# Altium integrated library 2.4 GHz Low Pass Filter.IntLib: 1 symbol
Pins are listed as number, name and electrical type; pins without a type are passive.

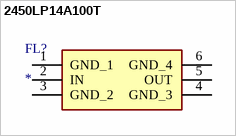
[diagram p0: symbol 2450LP14A100T]

## 2450LP14A100T
designator FL?
Filter; Manufacturer_Name: JOHANSON TECHNOLOGY; Manufacturer_Part_Number: 2450LP14A100T; Datasheet Link: https://componentsearchengine.com/Datasheets/1/2450LP14A100T.pdf; Height: 0.7mm; Mouser Part Number: 609-2450LP14A100T; Mouser Price/Stock: https://www.mouser.co.uk/ProductDetail/Johanson-Technology/2450LP14A100T?qs=yCnrNFeXz%252BgP94nTCDCKIA%3D%3D; Arrow Part Number: 2450LP14A100T; Arrow Price/Stock: https://www.arrow.com/en/products/2450lp14a100t/johanson-dielectrics?region=nac; Supplier 1: Mouser; Supplier Part Number 1: 609-2450LP14A100T
footprint 2450LP14A100T
pins: 1 GND_1, 2 IN, 3 GND_2, 4 GND_3, 5 OUT, 6 GND_4